# Altium schematic symbol library pico-clasp-4.SchLib: 1 symbol
Pins are listed as number, name and electrical type; pins without a type are passive.

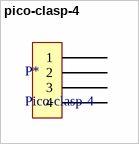
[diagram p0: symbol pico-clasp-4]

## pico-clasp-4
designator P*, comment Pico-clasp-4
4 pins
footprint 4 pins pico-clasp
pins: 1, 1 2, 3, 4